# Altium schematic symbol library LV_module.SchLib: 16 symbols
Pins are listed as number, name and electrical type; pins without a type are passive.

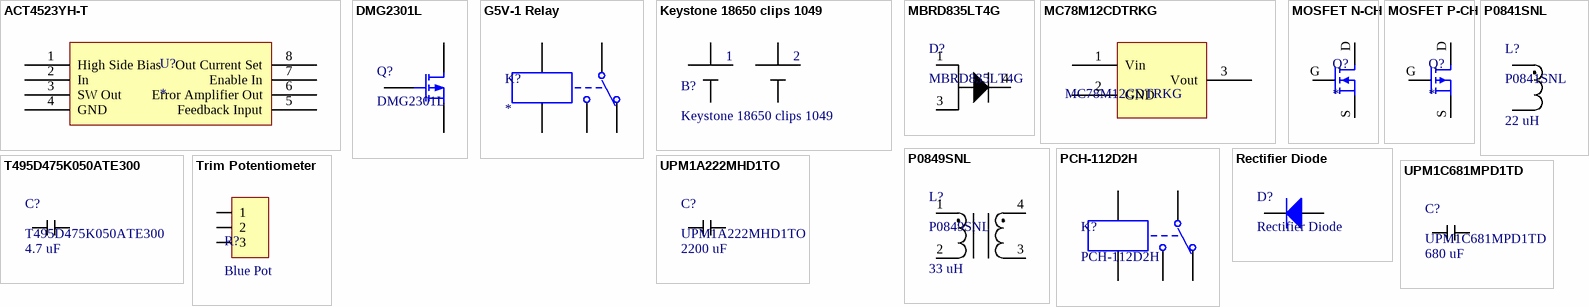
[diagram p0: symbols ACT4523YH-T to UPM1C681MPD1TD]

## ACT4523YH-T
designator U?
12V Switching Step-Down Voltage Regulator, 3A; ComponentLink1Description: Datasheet; ComponentLink1URL: https://www.mouser.com/ProductDetail/Active-Semi/ACT4523YH-T?qs=sGAEpiMZZMvAX9OfPh%252b2NfBXPosy15gJqki7s5gGRIzvMFr3ouGnvg%3d%3d
footprint ACT4523YH-T (12V Switching Step-Down Voltage Regulator, 3A)
pins: 1 High Side Bias, 2 In, 3 SW Out, 4 GND, 5 Feedback Input, 6 Error Amplifier Out, 7 Enable In, 8 Out Current Set

## DMG2301L
designator Q?
P-Ch MOSFET 3A 20V
footprint DMG2301L (P-Ch MOSFET 3A 20V)
pins: 1 G, 2 D, 3 S

## G5V-1 Relay
designator K?
ComponentLink1Description: Datasheet; ComponentLink1URL: https://omronfs.omron.com/en_US/ecb/products/pdf/en-g5v_1.pdf
footprint G5V-1 Relay
pins: 1, 2, 3, 4, 5

## Keystone 18650 clips 1049
designator B?
footprint Keystone 18650 clips
pins: 1+, 1-, 2+, 2-
text: 1; 2

## MBRD835LT4G
designator D?
ON Semiconductor Shottky diode
footprint MBRD835LT4G (ON Semiconductor Shottky diode)
pins: 1, 3, 4

## MC78M12CDTRKG
designator ?
12V Linear Voltage Regulator, 500mA
footprint MC78M12CDTRKG (12V Linear Voltage Regulator, 500mA)
pins: 1 Vin, 2 GND, 3 Vout

## MOSFET N-CH
designator Q?
footprint SOT23-3
pins: D, G, S

## MOSFET P-CH
designator Q?
pins: D, G, S

## P0841SNL
designator L?  value 22 uH
Pulse electronics inductor 22uH 5A 36 mOHM SMD
footprint P0841SNL (Pulse electronics inductor 22uH 5A 36 mOHM SMD)
pins: 1, 2

## P0849SNL
designator L?  value 33 uH
Pulse electronics inductor 33UH 5A 19 MOHM SMD (Series connect pin2-4)
footprint P0849SNL (Pulse electronics inductor 33UH 5A 19 MOHM SMD)
pins: 1, 2, 3, 4

## PCH-112D2H
designator K?
Relay Normally closed 5vdc coil voltage, 5A / https://www.digikey.com/product-detail/en/te-connectivity-potter-brumfield-relays/PCH-105D2H000/PB890-ND/1095215
footprint PCH-112D2H
pins: 1, 2, 3, 4, 5

## Rectifier Diode
designator D?
footprint SMA Diode
footprint SMB Diode
pins: 1, 2

## T495D475K050ATE300
designator C?  value 4.7 uF
KEMET Capacitor (Case D)
footprint T495D475K050ATE300 (KEMET Capacitor (Case D))
pins: 1, 2

## Trim Potentiometer
designator R?, comment Blue Pot
footprint Trim Potentiometer
pins: 1, 2, 3

## UPM1A222MHD1TO
designator C?  value 2200 uF
Nichicon Capacitor 2200 uF
footprint UPM1A222MHD1TO (Nichicon 2200 uF)
pins: 1, 2

## UPM1C681MPD1TD
designator C?  value 680 uF
Nichicon Capacitor 680uF
footprint UPM1C681MPD1TD (Nichicon Capacitor 680uF)
pins: 1, 2